# Altium footprint library RPi_SyncInputAdapter_PCBLib.PcbLib: 6 footprints
Each footprint in its own frame and in the unit in brackets; x right, y up, seen from the top. Pads: shape width x height; smd on the part's side, far side on the other; paste and mask are expansions set on the pad; w line width, h text height; cw(c..) or ccw(c..) is an arc to the next point about the centre after c.
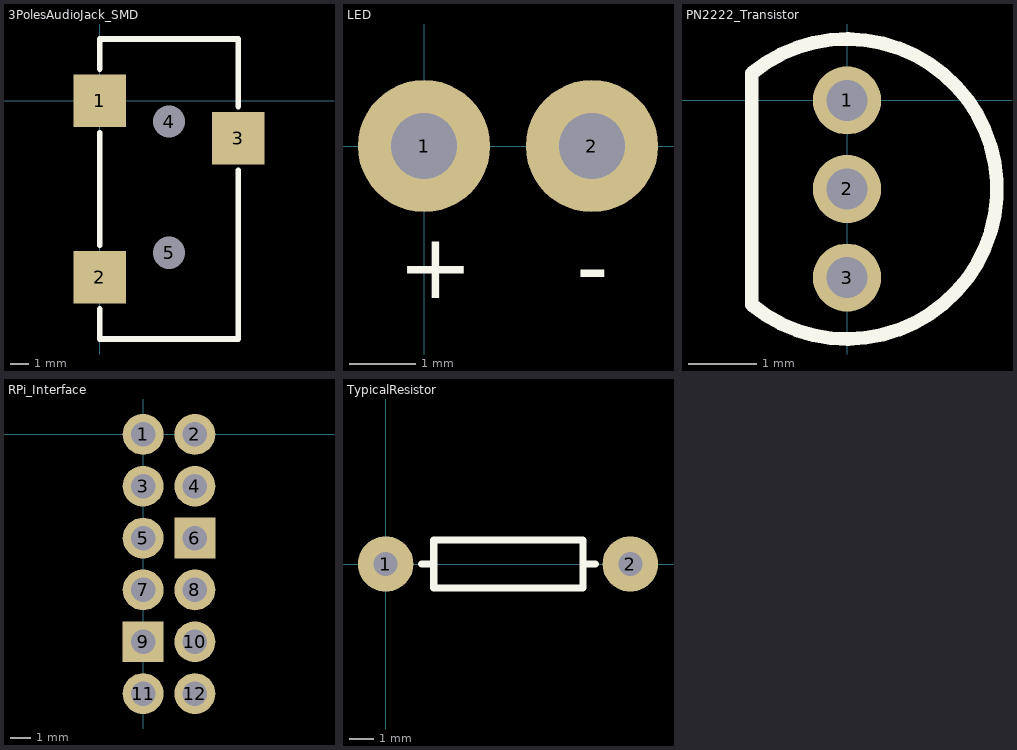
[diagram p0: the footprints below, top view; thin cyan lines are the x and y axes]

## 3PolesAudioJack_SMD [mm]
pads (5):
  rect 2.8x2.8 smd: 1(0,0) 2(0,-9.4) 3(7.4,-2)
  round 1.524 hole 1.72: 4(3.7,-1.1) 5(3.7,-8.1)
Top Overlay:
  lines w0.3: 0,-11.1 0,-12.7 7.4,-12.7 7.4,-3.7 ; 0,-7.7 0,-1.7 ; 0,1.7 0,3.3 7.4,3.3 7.4,-0.3
3D body "CUI_DEVICES_SJ-3523-SMT-TR.step": height 5.11, standoff -0.69, extent -0.8,-12.2 8.2,4.8

## LED [mm]
pads (2):
  round 2 hole 1: 1(0,0) 2(2.54,0)
Top Overlay:
  text "+" at -0.4,-2.3 h1
  text "-" at 2.3,-2.3 h1

## PCBComponent_1 [mm]

## PN2222_Transistor [mm]
pads (3):
  round 1 hole 0.6: 1(0,0) 2(0,-1.3) 3(0,-2.6)
Top Overlay:
  lines w0.2: -1.4,-3 ccw(c0,-1.3) -1.4,0.4 -1.4,-3

## RPi_Interface [mm]
pads (12):
  round 2 hole 1.2: 1(0,0) 2(2.54,0) 3(0,-2.54) 4(2.54,-2.54) 5(0,-5.08) 7(0,-7.62) 8(2.54,-7.62) 10(2.54,-10.16) 11(0,-12.7) 12(2.54,-12.7)
  rect 2x2 hole 1.2: 6(2.54,-5.08) 9(0,-10.16)

## TypicalResistor [mm]
pads (2):
  round 2.3 hole 1: 1(0,0) 2(10.16,0)
Top Overlay:
  lines w0.3: 1.5,0 2,0 ; 8.2,0 8.7,0 ; 2,0 2,-1 8.2,-1 8.2,1 2,1 2,0